# Altium schematic symbol library 04-ZYNQ BANK 501.SchLib: 1 symbol
Pins are listed as number, name and electrical type; pins without a type are passive.

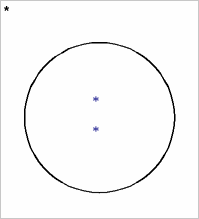
[diagram p0: symbol *]

## *
designator *